# EAGLE library part 0533980671 (library CONNECTORs)
1.25mm pitch 1A connector. 6 way.
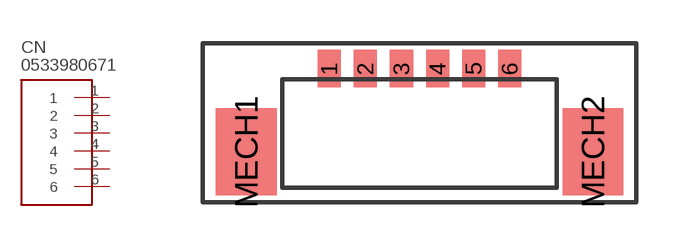
[diagram p11: symbol with the pads of MOLEX_0533980671; footprint MOLEX_0533980671]

Designator prefix CN

## 0533980671 (DIGIKEY: WM7610CT-ND; HEIGHT: 4.7; PRICE_PER: 0.55; VALUE: 6 PIN SM V)  [MOLEX_0533980671]
1  1
2  2
3  3
4  4
5  5
6  6

## Footprint MOLEX_0533980671 (pad centres in mm)
smd 0.8 x 1.3: 1 -3.125,2.125; 2 -1.875,2.125; 3 -0.625,2.125; 4 0.625,2.125; 5 1.875,2.125; 6 3.125,2.125
smd 2.1 x 3: MECH1 -6,-0.75; MECH2 6,-0.75